# Altium footprint library component.PcbLib: 7 footprints
Each footprint in its own frame and in the unit in brackets; x right, y up, seen from the top. Pads: shape width x height; smd on the part's side, far side on the other; paste and mask are expansions set on the pad; w line width, h text height; cw(c..) or ccw(c..) is an arc to the next point about the centre after c.
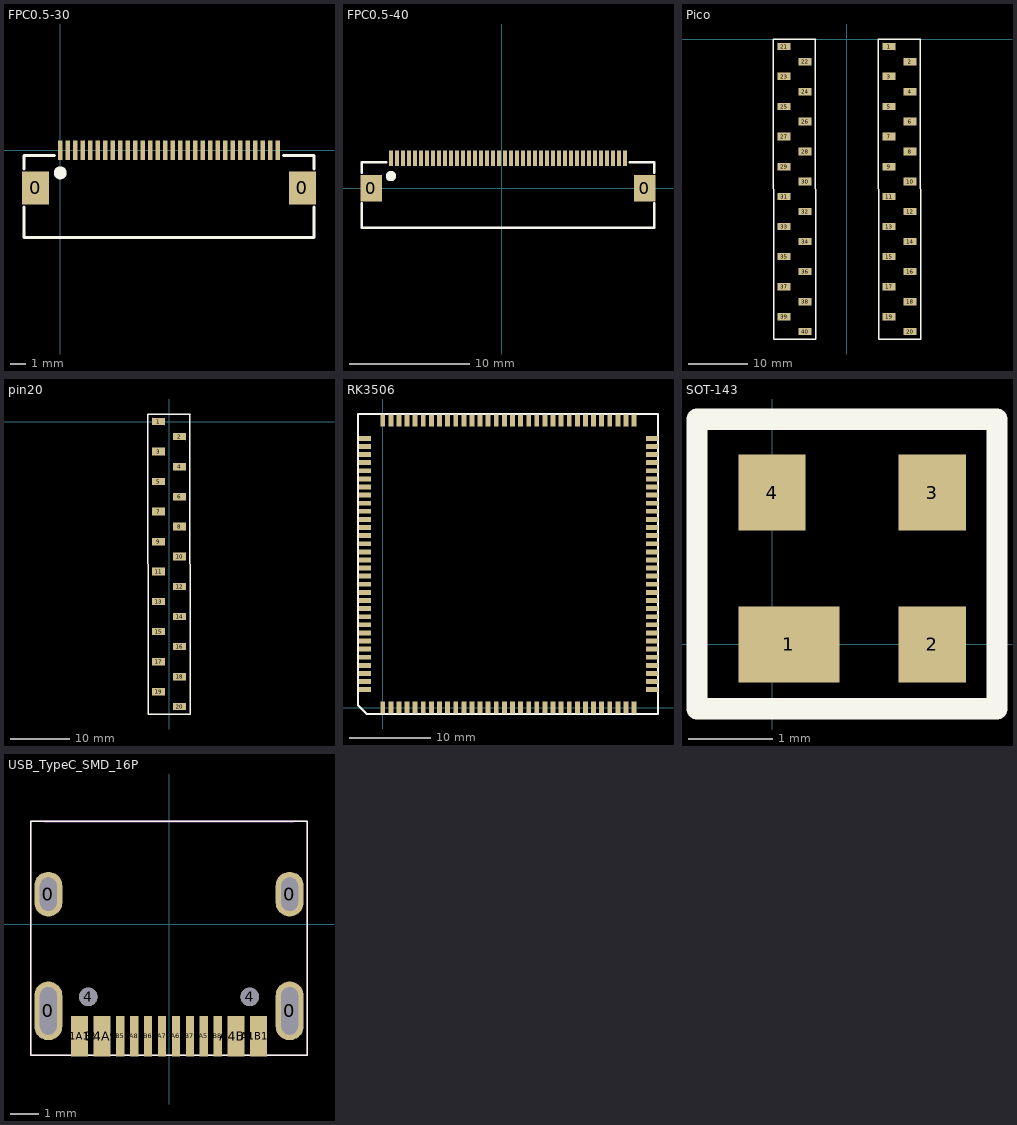
[diagram p0: the footprints below, top view; thin cyan lines are the x and y axes]

## FPC0.5-30 [mm]
pads (32):
  rect 1.8x2.2 smd: 0(-1.65,-2.497) 0(16.15,-2.497)
  rect 0.3x1.3 smd: 1(14.5,0) 2(14,0) 3(13.5,0) 4(13,0) 5(12.5,0) 6(12,0) 7(11.5,0) 8(11,0) 9(10.5,0) 10(10,0) 11(9.5,0) 12(9,0) 13(8.5,0) 14(8,0) 15(7.5,0) 16(7,0) 17(6.5,0) 18(6,0) 19(5.5,0) 20(5,0) 21(4.5,0) 22(4,0) 23(3.5,0) 24(3,0) 25(2.5,0) 26(2,0) 27(1.5,0) 28(1,0) 29(0.5,0) 30(0,0)
Top Overlay:
  circle w0.5: c0,-1.497 r0.18
  lines w0.2: -2.425,-3.767 -2.425,-5.799 16.925,-5.799 16.925,-3.767 ; -2.425,-1.227 -2.425,-0.338 -0.393,-0.338 ; 14.893,-0.338 16.925,-0.338 16.925,-1.227

## FPC0.5-40 [mm]
pads (42):
  rect 1.8x2.2 smd: 0(-10.876,0) 0(11.924,0)
  rect 0.3x1.3 smd: 1(10.274,2.497) 2(9.774,2.497) 3(9.274,2.497) 4(8.774,2.497) 5(8.274,2.497) 6(7.774,2.497) 7(7.274,2.497) 8(6.774,2.497) 9(6.274,2.497) 10(5.774,2.497) 11(5.274,2.497) 12(4.774,2.497) 13(4.274,2.497) 14(3.774,2.497) 15(3.274,2.497) 16(2.774,2.497) 17(2.274,2.497) 18(1.774,2.497) 19(1.274,2.497) 20(0.774,2.497) 21(0.274,2.497) 22(-0.226,2.497) 23(-0.726,2.497) 24(-1.226,2.497) 25(-1.726,2.497) 26(-2.226,2.497) 27(-2.726,2.497) 28(-3.226,2.497) 29(-3.726,2.497) 30(-4.226,2.497) 31(-4.726,2.497) 32(-5.226,2.497) 33(-5.726,2.497) 34(-6.226,2.497) 35(-6.726,2.497) 36(-7.226,2.497) 37(-7.726,2.497) 38(-8.226,2.497) 39(-8.726,2.497) 40(-9.226,2.497)
Top Overlay:
  circle w0.5: c-9.226,1 r0.18
  lines w0.2: -11.651,-1.27 -11.651,-3.302 12.699,-3.302 12.699,-1.27 ; -11.651,1.27 -11.651,2.159 -9.619,2.159 ; 10.667,2.159 12.699,2.159 12.699,1.27
3D body "FPC0.5-40P.STEP": height 2, standoff -0.01, extent -11.566,-3.229 12.634,2.771

## Pico [mm]
pads (40):
  rect 2.2x1.27 smd: 1(7.112,-1.27) 2(10.668,-3.81) 3(7.112,-6.35) 4(10.668,-8.89) 5(7.112,-11.43) 6(10.668,-13.97) 7(7.112,-16.51) 8(10.668,-19.05) 9(7.112,-21.59) 10(10.668,-24.13) 11(7.112,-26.67) 12(10.668,-29.21) 13(7.112,-31.75) 14(10.668,-34.29) 15(7.112,-36.83) 16(10.668,-39.37) 17(7.112,-41.91) 18(10.668,-44.45) 19(7.112,-46.99) 20(10.668,-49.53) 21(-10.668,-1.27) 22(-7.112,-3.81) 23(-10.668,-6.35) 24(-7.112,-8.89) 25(-10.668,-11.43) 26(-7.112,-13.97) 27(-10.668,-16.51) 28(-7.112,-19.05) 29(-10.668,-21.59) 30(-7.112,-24.13) 31(-10.668,-26.67) 32(-7.112,-29.21) 33(-10.668,-31.75) 34(-7.112,-34.29) 35(-10.668,-36.83) 36(-7.112,-39.37) 37(-10.668,-41.91) 38(-7.112,-44.45) 39(-10.668,-46.99) 40(-7.112,-49.53)
Top Overlay:
  lines w0.254: -12.446,-50.8 -12.446,0 -5.334,0 -5.334,-50.8 -12.446,-50.8 ; 5.334,-50.8 12.446,-50.8 12.446,0 5.334,0 5.334,-50.8

## pin20 [mm]
pads (20):
  rect 2.2x1.27 smd: 1(-1.778,0) 2(1.778,-2.54) 3(-1.778,-5.08) 4(1.778,-7.62) 5(-1.778,-10.16) 6(1.778,-12.7) 7(-1.778,-15.24) 8(1.778,-17.78) 9(-1.778,-20.32) 10(1.778,-22.86) 11(-1.778,-25.4) 12(1.778,-27.94) 13(-1.778,-30.48) 14(1.778,-33.02) 15(-1.778,-35.56) 16(1.778,-38.1) 17(-1.778,-40.64) 18(1.778,-43.18) 19(-1.778,-45.72) 20(1.778,-48.26)
Top Overlay:
  lines w0.254: -3.556,-49.53 -3.556,1.27 3.556,1.27 3.556,-49.53 -3.556,-49.53

## RK3506 [mm]
pads (128):
  rect 0.6x1.5 smd: 1(0,0) 2(1,0) 3(2,0) 4(3,0) 5(4,0) 6(5,0) 7(6,0) 8(7,0) 9(8,0) 10(9,0) 11(10,0) 12(11,0) 13(12,0) 14(13,0) 15(14,0) 16(15,0) 17(16,0) 18(17,0) 19(18,0) 20(19,0) 21(20,0) 22(21,0) 23(22,0) 24(23,0) 25(24,0) 26(25,0) 27(26,0) 28(27,0) 29(28,0) 30(29,0) 31(30,0) 32(31,0) 65(31,35.4) 66(30,35.4) 67(29,35.4) 68(28,35.4) 69(27,35.4) 70(26,35.4) 71(25,35.4) 72(24,35.4) 73(23,35.4) 74(22,35.4) 75(21,35.4) 76(20,35.4) 77(19,35.4) 78(18,35.4) 79(17,35.4) 80(16,35.4) 81(15,35.4) 82(14,35.4) 83(13,35.4) 84(12,35.4) 85(11,35.4) 86(10,35.4) 87(9,35.4) 88(8,35.4) 89(7,35.4) 90(6,35.4) 91(5,35.4) 92(4,35.4) 93(3,35.4) 94(2,35.4) 95(1,35.4) 96(0,35.4)
  rect 1.5x0.6 smd: 33(33.2,2.2) 34(33.2,3.2) 35(33.2,4.2) 36(33.2,5.2) 37(33.2,6.2) 38(33.2,7.2) 39(33.2,8.2) 40(33.2,9.2) 41(33.2,10.2) 42(33.2,11.2) 43(33.2,12.2) 44(33.2,13.2) 45(33.2,14.2) 46(33.2,15.2) 47(33.2,16.2) 48(33.2,17.2) 49(33.2,18.2) 50(33.2,19.2) 51(33.2,20.2) 52(33.2,21.2) 53(33.2,22.2) 54(33.2,23.2) 55(33.2,24.2) 56(33.2,25.2) 57(33.2,26.2) 58(33.2,27.2) 59(33.2,28.2) 60(33.2,29.2) 61(33.2,30.2) 62(33.2,31.2) 63(33.2,32.2) 64(33.2,33.2) 97(-2.2,33.2) 98(-2.2,32.2) 99(-2.2,31.2) 100(-2.2,30.2) 101(-2.2,29.2) 102(-2.2,28.2) 103(-2.2,27.2) 104(-2.2,26.2) 105(-2.2,25.2) 106(-2.2,24.2) 107(-2.2,23.2) 108(-2.2,22.2) 109(-2.2,21.2) 110(-2.2,20.2) 111(-2.2,19.2) 112(-2.2,18.2) 113(-2.2,17.2) 114(-2.2,16.2) 115(-2.2,15.2) 116(-2.2,14.2) 117(-2.2,13.2) 118(-2.2,12.2) 119(-2.2,11.2) 120(-2.2,10.2) 121(-2.2,9.2) 122(-2.2,8.2) 123(-2.2,7.2) 124(-2.2,6.2) 125(-2.2,5.2) 126(-2.2,4.2) 127(-2.2,3.2) 128(-2.2,2.2)
Top Overlay:
  lines w0.254: -3.053,0.259 -3.053,36.2 33.947,36.2 33.947,-0.8 -1.994,-0.8 -3.053,0.259

## SOT-143 [mm]
pads (4):
  rect 1.2x0.9 smd: 1(0.2,0)
  rect 0.8x0.9 smd: 2(1.9,0) 3(1.9,1.8) 4(0,1.8)
Top Overlay:
  lines w0.254: -0.889,-0.762 -0.889,2.667 2.667,2.667 2.667,-0.762 -0.889,-0.762

## USB_TypeC_SMD_16P [mm]
height 11.1
pads (18):
  oval 1x2.1 hole 0.6 slot 1.7 at 90 deg: 0(-4.32,-3.105) 0(4.32,-3.105)
  oval 1x1.6 hole 0.6 slot 1.2 at 90 deg: 0(-4.32,1.075) 0(4.32,1.075)
  round 0.66 hole 0.66: 4(-2.89,-2.605) 4(2.89,-2.605)
  rect 0.6x1.45 smd: A1B12(3.2,-4.02) A4B9(2.4,-4.02) B1A12(-3.2,-4.02) B4A9(-2.4,-4.02)
  rect 0.3x1.45 smd: A5(1.25,-4.02) A6(0.25,-4.02) A7(-0.25,-4.02) A8(-1.25,-4.02) B5(-1.75,-4.02) B6(-0.75,-4.02) B7(0.75,-4.02) B8(1.75,-4.02)
Top Overlay:
  lines w0.051: -4.953,-4.699 4.953,-4.699 4.953,3.683 -4.953,3.683 -4.953,-4.699
Mechanical 13:
  lines w0.051: -4.47,3.675 4.47,3.675
Mechanical 14:
  lines w0.051: -4.953,-4.699 -4.953,3.683 4.953,3.683 4.953,-4.699 -4.953,-4.699
3D body "uj31-ch-3-smt-tr.stp": height 3.21, standoff -0.85, extent -4.48,-4.65 4.48,4.7